# EAGLE library part SN74LVC1T45 (library pepin)
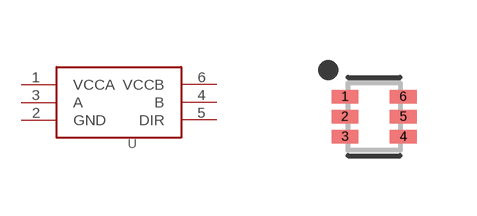
[diagram p21: symbol with the pads of SOTFL50P160X60-6N; footprint SOTFL50P160X60-6N]

Designator prefix U

## SN74LVC1T45DRL  [SOTFL50P160X60-6N]
1  VCCA  pwr
2  GND  pwr
3  A
4  B
5  DIR
6  VCCB  pwr

## Footprint SOTFL50P160X60-6N (pad centres in mm)
6-SOTFL, 0.50 mm pitch, 1.60 mm span, 1.60 X 1.20 X 0.60 mm body 6-pin SOTFL package with 0.50 mm pitch, 1.60 mm span with body size 1.60 X 1.20 X 0.60 mm
smd 0.673 x 0.337: 1 -0.728,0.5; 2 -0.728,0; 3 -0.728,-0.5; 4 0.728,-0.5; 5 0.728,0; 6 0.728,0.5